# EAGLE library part L202021MA04Q (library StarLiteLib)
SWITCH-DPDT
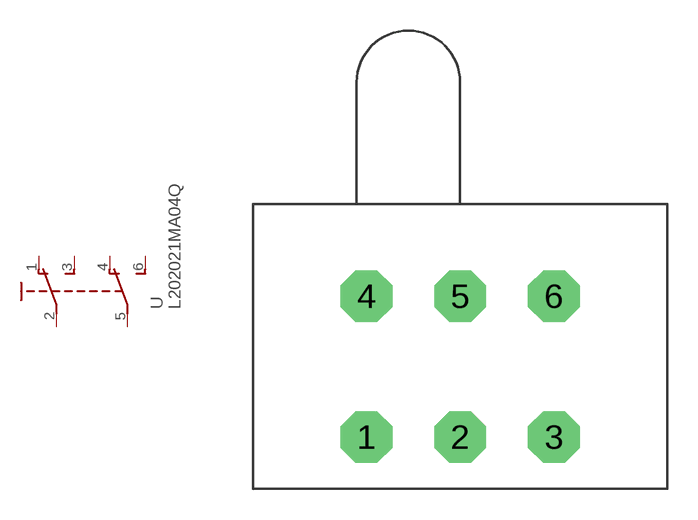
[diagram p8: symbol with the pads of DPDT181; footprint DPDT181]

Designator prefix -

## L202021MA04Q  [DPDT181]
1  O  pas
2  P  pas
3  S  pas
4  O1  pas
5  P1  pas
6  S1  pas

## Footprint DPDT181 (pad centres in mm)
C&K Comp L102ML04 Distributor: Digikey <https://www.digikey.com/default.asp?event=ShowArtikel%2812G2820%29&l=d&jump=ArtNr_12G2820>
drill 1.575 pad 2.54 octagon: 1 -4.597,-5.08; 2 0,-5.08; 3 4.597,-5.08; 4 -4.597,1.829; 5 0,1.829; 6 4.597,1.829